# Altium footprint library GeneralComponents.PcbLib: 28 footprints (part 1 of 2)
Each footprint in its own frame and in the unit in brackets; x right, y up, seen from the top. Pads: shape width x height; smd on the part's side, far side on the other; paste and mask are expansions set on the pad; w line width, h text height; cw(c..) or ccw(c..) is an arc to the next point about the centre after c.
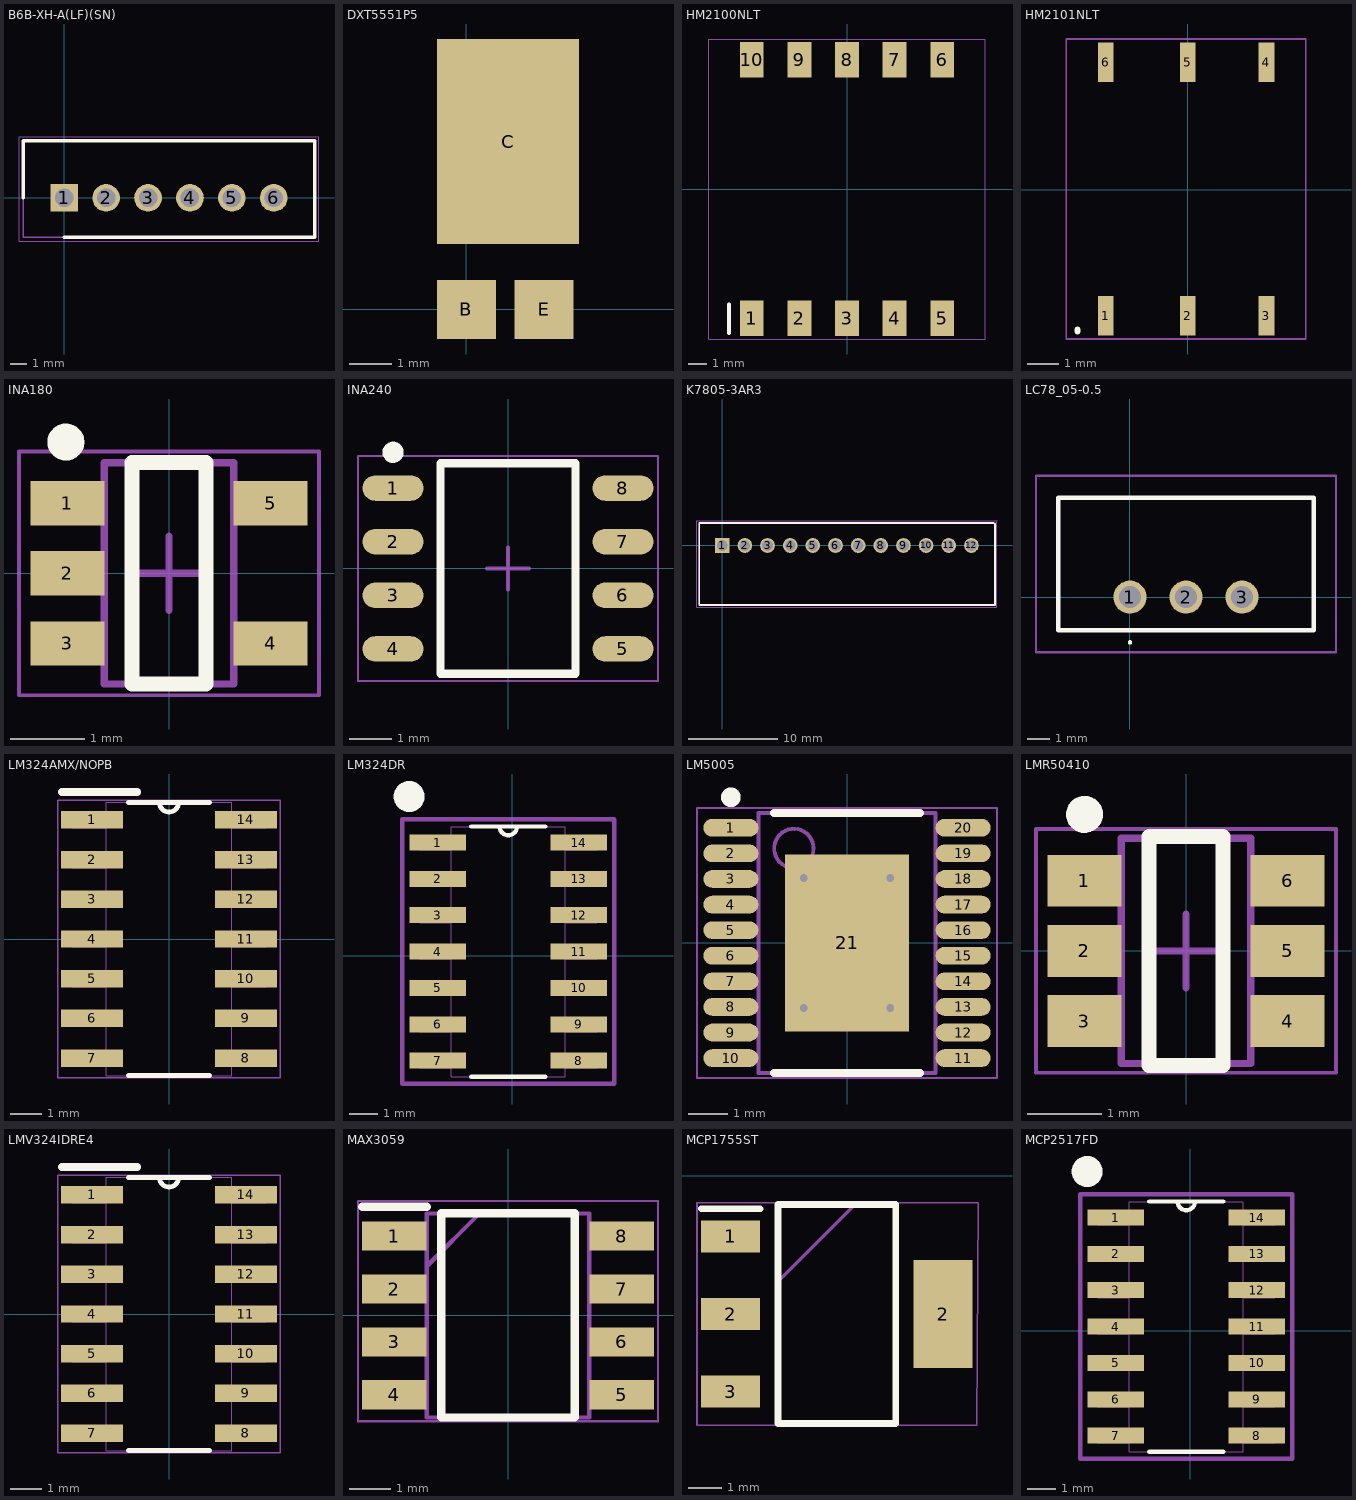
[diagram p0: the footprints below, top view; thin cyan lines are the x and y axes]

## B6B-XH-A(LF)(SN) [mm]
pads (6):
  rect 1.65x1.65 hole 1.1: 1(0,0)
  round 1.65 hole 1.1: 2(2.5,0) 3(5,0) 4(7.5,0) 5(10,0) 6(12.5,0)
Top Overlay:
  lines w0.2: -2.45,0 -2.45,3.4 14.95,3.4 14.95,-2.35 0,-2.35
Mechanical 13:
  lines w0.1: -2.45,-2.35 14.95,-2.35 14.95,3.4 -2.45,3.4 -2.45,-2.35
Mechanical 15:
  lines w0.05: -2.7,-2.6 15.2,-2.6 15.2,3.65 -2.7,3.65 -2.7,-2.6
3D body "B6B-XH-A_LF__SN_.stp": height 7, standoff -3.4, extent -2.45,-2.875 14.95,2.875

## DXT5551P5 [mm]
pads (3):
  rect 1.39x1.4 smd mask+0.07: B(0,0) E(1.84,0)
  rect 3.36x4.86 smd mask+0.07: C(0.985,3.982)
3D body "User Library-PowerDI-5.STEP": height 1.16, standoff 0.01, extent -1.009,-0.508 3.041,6.092

## HM2100NLT [mm]
height 3.45
pads (10):
  rect 1.27x1.89 smd: 1(-5.08,-6.895) 2(-2.54,-6.895) 3(0,-6.895) 4(2.54,-6.895) 5(5.08,-6.895) 6(5.08,6.895) 7(2.54,6.895) 8(0,6.895) 9(-2.54,6.895) 10(-5.08,6.895)
Top Overlay:
  lines w0.2: -6.288,-7.691 -6.288,-6.141
Mechanical 15:
  lines w0.05: -7.366,-8.001 -7.366,8.001 7.366,8.001 7.366,-8.001 -7.366,-8.001
3D body "HM2100NL.STEP": height 3.2, standoff -0.05, extent -7.35,-7.483 7.35,7.482

## HM2101NLT [mm]
pads (6):
  rect 0.51x1.27 smd: 1(-2.64,-4.05) 2(0,-4.05) 3(2.53,-4.045) 4(2.53,4.095) 5(0,4.095) 6(-2.64,4.095)
Top Overlay:
  lines w0.2: -3.55,-4.55 -3.55,-4.5
Mechanical 15:
  lines w0.05: -3.916,-4.8 3.8,-4.8 3.8,4.85 -3.916,4.85 -3.916,-4.8
3D body: height 0.25, standoff 0, extent -3.875,-4.35 3.775,4.45

## INA180 [mm] "SOT23, 5-Leads, Body 2.80x2.80mm, Pitch 0.95mm, IPC Medium Density"
height 1.1
pads (5):
  rect 1x0.6 smd: 1(-1.375,0.95) 2(-1.375,0) 3(-1.375,-0.95) 4(1.375,-0.95) 5(1.375,0.95)
Top Overlay:
  circle w0.25: c-1.397,1.778 r0.125
  lines w0.2: -0.5,-1.5 -0.5,1.5 0.5,1.5 0.5,-1.5 -0.5,-1.5
Mechanical 13:
  lines w0.1: -0.875,-1.5 0.875,-1.5 0.875,1.5 -0.875,1.5 -0.875,-1.5
Mechanical 15:
  lines w0.05: -2.032,-1.651 2.032,-1.651 2.032,1.651 -2.032,1.651 -2.032,-1.651
  lines w0.1: -0.5,0 0.5,0 ; 0,-0.5 0,0.5
3D body: height 1.1, standoff 0.05, extent -0.875,-1.5 0.875,1.5

## INA240 [mm] "SOIC, 8-Leads, Body 4.91x3.90mm, Pitch 1.27mm, IPC Medium Density"
height 1.75
pads (8):
  oval 1.45x0.6 smd: 1(-2.725,1.905) 2(-2.725,0.635) 3(-2.725,-0.635) 4(-2.725,-1.905) 5(2.725,-1.905) 6(2.725,-0.635) 7(2.725,0.635) 8(2.725,1.905)
Top Overlay:
  circle w0.25: c-2.725,2.755 r0.125
  lines w0.2: -1.6,-2.5 1.6,-2.5 1.6,2.5 -1.6,2.5 -1.6,-2.5
Mechanical 15:
  lines w0.05: -3.556,-2.667 3.556,-2.667 3.556,2.667 -3.556,2.667 -3.556,-2.667
  lines w0.1: -0.5,0 0.5,0 ; 0,-0.5 0,0.5
3D body "SOIC-8_3.9x4.9mm_P1.27mm.step": height 1.75, standoff 0, extent -3,-2.45 3,2.45

## K7805-3AR3 [mm] "Non-Isolated PoL Module DC DC Converter 1 Output 5V 3A 8V - 36V Input"
pads (12):
  rect 1.65x1.65 hole 1.2: 1(0,0)
  round 1.65 hole 1.2: 2(2.54,0) 3(5.08,0) 4(7.62,0) 5(10.16,0) 6(12.7,0) 7(15.24,0) 8(17.78,0) 9(20.32,0) 10(22.86,0) 11(25.4,0) 12(27.94,0)
Top Overlay:
  lines w0.2: -2.577,-6.604 -2.577,2.511 30.443,2.511 ; -2.54,-6.668 30.57,-6.668 30.57,2.446
Mechanical 13:
  lines w0.1: -2.577,2.382 -2.577,-6.668 30.443,-6.668 ; -2.577,2.511 30.607,2.54 30.607,-6.637
Mechanical 15:
  lines w0.05: -2.827,2.761 -2.827,-6.918 30.8,-6.918 30.8,2.761 ; -2.818,2.761 30.809,2.761

## LC78_05-0.5 [mm]
height 14.2
pads (3):
  round 1.5 hole 1: 1(0,0) 2(2.54,0) 3(5.08,0)
Top Overlay:
  lines w0.1: 0,-2.1 cw(c0,-2.05) 0,-2 cw(c0,-2.05) 0,-2.1
  lines w0.2: -3.26,-1.5 8.34,-1.5 8.34,4.5 -3.26,4.5 -3.26,-1.5
Mechanical 13:
  lines w0.1: -3.26,-1.5 8.34,-1.5 8.34,4.5 -3.26,4.5 -3.26,-1.5
Mechanical 15:
  lines w0.1: -4.26,-2.5 9.34,-2.5 9.34,5.5 -4.26,5.5 -4.26,-2.5
3D body "LC78_05-0.5.stp": height 10.3, standoff -5, extent -3.26,-1.5 8.34,4.5

## LM324AMX/NOPB [mil] "Gen Purp 4Ch Opamp"
pads (14):
  rect 78x22 smd: 1(-97,150) 2(-97,100) 3(-97,50) 4(-97,0) 5(-97,-50) 6(-97,-100) 7(-97,-150) 8(97,-150) 9(97,-100) 10(97,-50) 11(97,0) 12(97,50) 13(97,100) 14(97,150)
Top Overlay:
  lines w6: -50.89,-172 50.89,-172 ; -50.89,172 50.89,172 ; -12,172 ccw(c0,172) 12,172
  lines w10: -135,185 -40,185
Mechanical 13:
  lines w0: -12,172 ccw(c0,172) 12,172
  lines w1: -122,-160 -79,-160 -79,-140 -122,-140 -122,-160 ; -122,-110 -79,-110 -79,-90 -122,-90 -122,-110 ; -122,-60 -79,-60 -79,-40 -122,-40 -122,-60 ; -122,-10 -79,-10 -79,10 -122,10 -122,-10 ; -122,40 -79,40 -79,60 -122,60 -122,40 ; -122,90 -79,90 -79,110 -122,110 -122,90 ; -122,140 -79,140 -79,160 -122,160 -122,140 ; -79,-172 -79,172 79,172 79,-172 -79,-172 ; 79,-160 122,-160 122,-140 79,-140 79,-160 ; 79,-110 122,-110 122,-90 79,-90 79,-110 ; 79,-60 122,-60 122,-40 79,-40 79,-60 ; 79,-10 122,-10 122,10 79,10 79,-10 ; 79,40 122,40 122,60 79,60 79,40 ; 79,90 122,90 122,110 79,110 79,90 ; 79,140 122,140 122,160 79,160 79,140
Mechanical 15:
  lines w1.97: -140,-175 140,-175 140,175 -140,175 -140,-175
3D body: height 10, standoff 0, extent 0,0 10,10
3D body "M14A.step": height 69.09, standoff 0, extent -122,-172 122.01,172.01

## LM324DR [mil] "General Purpose Amplifier 4 Circuit 14-SOIC"
pads (14):
  rect 78x22 smd: 1(-102.35,155.67) 2(-102.35,105.67) 3(-102.35,55.67) 4(-102.35,5.67) 5(-102.35,-44.33) 6(-102.35,-94.33) 7(-102.35,-144.33) 8(91.65,-144.33) 9(91.65,-94.33) 10(91.65,-44.33) 11(91.65,5.67) 12(91.65,55.67) 13(91.65,105.67) 14(91.65,155.67)
Top Overlay:
  circle w21.81: c-141.73,218.9 r10.39
  lines w6: -56.24,-166.33 45.53,-166.33 ; -56.24,177.67 45.53,177.67 ; -17.35,177.67 ccw(c-5.35,177.67) 6.65,177.67
Mechanical 13:
  lines w0: -17.35,177.67 ccw(c-5.35,177.67) 6.65,177.67
  lines w1: -127.35,-154.33 -127.35,-134.33 -83.85,-134.33 -83.85,-154.33 -127.35,-154.33 ; -127.35,-104.33 -127.35,-84.33 -83.85,-84.33 -83.85,-104.33 -127.35,-104.33 ; -127.35,-54.33 -127.35,-34.33 -83.85,-34.33 -83.85,-54.33 -127.35,-54.33 ; -127.35,-4.33 -127.35,15.67 -83.85,15.67 -83.85,-4.33 -127.35,-4.33 ; -127.35,45.67 -127.35,65.67 -83.85,65.67 -83.85,45.67 -127.35,45.67 ; -127.35,95.67 -127.35,115.67 -83.85,115.67 -83.85,95.67 -127.35,95.67 ; -127.35,145.67 -127.35,165.67 -83.85,165.67 -83.85,145.67 -127.35,145.67 ; -83.85,-166.33 73.15,-166.33 73.15,177.67 -83.85,177.67 -83.85,-166.33 ; 73.15,-154.33 73.15,-134.33 116.65,-134.33 116.65,-154.33 73.15,-154.33 ; 73.15,-104.33 73.15,-84.33 116.65,-84.33 116.65,-104.33 73.15,-104.33 ; 73.15,-54.33 73.15,-34.33 116.65,-34.33 116.65,-54.33 73.15,-54.33 ; 73.15,-4.33 73.15,15.67 116.65,15.67 116.65,-4.33 73.15,-4.33 ; 73.15,45.67 73.15,65.67 116.65,65.67 116.65,45.67 73.15,45.67 ; 73.15,95.67 73.15,115.67 116.65,115.67 116.65,95.67 73.15,95.67 ; 73.15,145.67 73.15,165.67 116.65,165.67 116.65,145.67 73.15,145.67
Mechanical 15:
  lines w6: -151.35,-176.33 -151.35,187.67 140.65,187.67 140.65,-176.33 -151.35,-176.33
3D body "D14.step": height 69.09, standoff 0, extent -127.36,-166.34 116.65,177.68

## LM5005 [mm] "20-PowerTSSOP (0.173\"\", 4.40mm Width)"
height 1.1
pads (21):
  oval 1.4x0.45 smd: 1(-2.95,2.925) 2(-2.95,2.275) 3(-2.95,1.625) 4(-2.95,0.975) 5(-2.95,0.325) 6(-2.95,-0.325) 7(-2.95,-0.975) 8(-2.95,-1.625) 9(-2.95,-2.275) 10(-2.95,-2.925) 11(2.95,-2.925) 12(2.95,-2.275) 13(2.95,-1.625) 14(2.95,-0.975) 15(2.95,-0.325) 16(2.95,0.325) 17(2.95,0.975) 18(2.95,1.625) 19(2.95,2.275) 20(2.95,2.925)
  rect 3.15x4.5 smd: 21(0,0)
via -1.1,1.65 diameter 0.5 hole 0.2
via 1.1,-1.65 diameter 0.5 hole 0.2
via -1.1,-1.65 diameter 0.5 hole 0.2
via 1.1,1.65 diameter 0.5 hole 0.2
Top Overlay:
  circle w0.25: c-2.95,3.7 r0.125
  lines w0.2: -1.85,-3.3 1.85,-3.3 ; -1.85,3.3 1.85,3.3
Mechanical 13:
  circle w0.1: c-1.35,2.4 r0.5
  lines w0.1: -2.25,-3.3 2.25,-3.3 2.25,3.3 -2.25,3.3 -2.25,-3.3
Mechanical 15:
  lines w0.05: -3.81,-3.429 3.81,-3.429 3.81,3.429 -3.81,3.429 -3.81,-3.429
  lines w0.1: -0.5,0 0.5,0 ; 0,-0.5 0,0.5
3D body "LM5005.step": height 1.1, standoff 0, extent -3.2,-3.3 3.2,3.3

## LMR50410 [mm] "SOT23, 6-Leads, Body 2.90x2.80mm, Pitch 0.95mm, IPC Medium Density"
height 1.1
pads (6):
  rect 1x0.7 smd: 1(-1.375,0.95) 2(-1.375,0) 3(-1.375,-0.95) 4(1.375,-0.95) 5(1.375,0) 6(1.375,0.95)
Top Overlay:
  circle w0.25: c-1.375,1.85 r0.125
  lines w0.2: -0.5,-1.55 0.5,-1.55 0.5,1.55 -0.5,1.55 -0.5,-1.55
Mechanical 13:
  lines w0.1: -0.875,-1.525 -0.875,1.525 0.875,1.525 0.875,-1.525 -0.875,-1.525
Mechanical 15:
  lines w0.05: -2.032,-1.651 -2.032,1.651 2.032,1.651 2.032,-1.651 -2.032,-1.651
  lines w0.1: -0.5,0 0.5,0 ; 0,-0.5 0,0.5
3D body: height 1.1, standoff 0.05, extent -0.875,-1.525 0.875,1.525

## LMV324IDRE4 [mil] "Gen Purp 4Ch Opamp"
pads (14):
  rect 78x22 smd: 1(-97,150) 2(-97,100) 3(-97,50) 4(-97,0) 5(-97,-50) 6(-97,-100) 7(-97,-150) 8(97,-150) 9(97,-100) 10(97,-50) 11(97,0) 12(97,50) 13(97,100) 14(97,150)
Top Overlay:
  lines w6: -50.89,-172 50.89,-172 ; -50.89,172 50.89,172 ; -12,172 ccw(c0,172) 12,172
  lines w10: -135,185 -40,185
Mechanical 13:
  lines w0: -12,172 ccw(c0,172) 12,172
  lines w1: -122,-160 -122,-140 -79,-140 -79,-160 -122,-160 ; -122,-110 -122,-90 -79,-90 -79,-110 -122,-110 ; -122,-60 -122,-40 -79,-40 -79,-60 -122,-60 ; -122,-10 -122,10 -79,10 -79,-10 -122,-10 ; -122,40 -122,60 -79,60 -79,40 -122,40 ; -122,90 -122,110 -79,110 -79,90 -122,90 ; -122,140 -122,160 -79,160 -79,140 -122,140 ; -79,-172 79,-172 79,172 -79,172 -79,-172 ; 79,-160 79,-140 122,-140 122,-160 79,-160 ; 79,-110 79,-90 122,-90 122,-110 79,-110 ; 79,-60 79,-40 122,-40 122,-60 79,-60 ; 79,-10 79,10 122,10 122,-10 79,-10 ; 79,40 79,60 122,60 122,40 79,40 ; 79,90 79,110 122,110 122,90 79,90 ; 79,140 79,160 122,160 122,140 79,140
Mechanical 15:
  lines w1.97: -140,-175 -140,175 140,175 140,-175 -140,-175
3D body "M14A.step": height 69.09, standoff 0, extent -122,-172 122.01,172.01
3D body: height 10, standoff 0, extent 0,0 10,10

## MAX3059 [mm] "SOIC127P600X175-8N"
height 1.75
pads (8):
  rect 1.55x0.7 smd: 1(-2.725,1.905) 2(-2.725,0.635) 3(-2.725,-0.635) 4(-2.725,-1.905) 5(2.725,-1.905) 6(2.725,-0.635) 7(2.725,0.635) 8(2.725,1.905)
Top Overlay:
  lines w0.2: -3.5,2.605 -1.95,2.605 ; -1.6,-2.45 -1.6,2.45 1.6,2.45 1.6,-2.45 -1.6,-2.45
Mechanical 13:
  lines w0.1: -1.95,1.18 -0.68,2.45 ; -1.95,-2.45 -1.95,2.45 1.95,2.45 1.95,-2.45 -1.95,-2.45
Mechanical 15:
  lines w0.05: -3.6,-2.54 -3.6,2.75 3.6,2.75 3.6,-2.54 -3.6,-2.54
3D body "TJA1051T.stp": height 1.75, standoff 0, extent -3,-2.45 3,2.45

## MCP1755ST [mm] "Load Drop Voltage Regulator"
pads (4):
  rect 1.75x0.95 smd: 1(2.4,-1.8) 2(2.4,-4.1) 3(2.4,-6.4)
  rect 1.75x3.2 smd: 2(8.7,-4.1)
Top Overlay:
  lines w0.2: 1.525,-0.975 3.275,-0.975 ; 3.8,-7.35 3.8,-0.85 7.3,-0.85 7.3,-7.35 3.8,-7.35
Mechanical 13:
  lines w0.1: 3.8,-3.15 6.1,-0.85 ; 3.8,-7.35 3.8,-0.85 7.3,-0.85 7.3,-7.35 3.8,-7.35
Mechanical 15:
  lines w0.05: 1.4,-7.402 1.4,-0.798 9.741,-0.798 9.7,-7.402 1.4,-7.402
3D body "TLV1117-33CDCYR.stp": height 1.8, standoff 0, extent 2.05,-7.35 9.05,-0.85

## MCP2517FD [mil] "CANbus Controller CAN 2.0 SPI Interface 14-SOIC"
pads (14):
  rect 78x22 smd: 1(-102.35,155.67) 2(-102.35,105.67) 3(-102.35,55.67) 4(-102.35,5.67) 5(-102.35,-44.33) 6(-102.35,-94.33) 7(-102.35,-144.33) 8(91.65,-144.33) 9(91.65,-94.33) 10(91.65,-44.33) 11(91.65,5.67) 12(91.65,55.67) 13(91.65,105.67) 14(91.65,155.67)
Top Overlay:
  circle w21.81: c-141.73,218.9 r10.39
  lines w6: -56.24,-166.33 45.53,-166.33 ; -56.24,177.67 45.53,177.67 ; -17.35,177.67 ccw(c-5.35,177.67) 6.65,177.67
Mechanical 13:
  lines w0: -17.35,177.67 ccw(c-5.35,177.67) 6.65,177.67
  lines w1: -127.35,-154.33 -127.35,-134.33 -83.85,-134.33 -83.85,-154.33 -127.35,-154.33 ; -127.35,-104.33 -127.35,-84.33 -83.85,-84.33 -83.85,-104.33 -127.35,-104.33 ; -127.35,-54.33 -127.35,-34.33 -83.85,-34.33 -83.85,-54.33 -127.35,-54.33 ; -127.35,-4.33 -127.35,15.67 -83.85,15.67 -83.85,-4.33 -127.35,-4.33 ; -127.35,45.67 -127.35,65.67 -83.85,65.67 -83.85,45.67 -127.35,45.67 ; -127.35,95.67 -127.35,115.67 -83.85,115.67 -83.85,95.67 -127.35,95.67 ; -127.35,145.67 -127.35,165.67 -83.85,165.67 -83.85,145.67 -127.35,145.67 ; -83.85,-166.33 73.15,-166.33 73.15,177.67 -83.85,177.67 -83.85,-166.33 ; 73.15,-154.33 73.15,-134.33 116.65,-134.33 116.65,-154.33 73.15,-154.33 ; 73.15,-104.33 73.15,-84.33 116.65,-84.33 116.65,-104.33 73.15,-104.33 ; 73.15,-54.33 73.15,-34.33 116.65,-34.33 116.65,-54.33 73.15,-54.33 ; 73.15,-4.33 73.15,15.67 116.65,15.67 116.65,-4.33 73.15,-4.33 ; 73.15,45.67 73.15,65.67 116.65,65.67 116.65,45.67 73.15,45.67 ; 73.15,95.67 73.15,115.67 116.65,115.67 116.65,95.67 73.15,95.67 ; 73.15,145.67 73.15,165.67 116.65,165.67 116.65,145.67 73.15,145.67
Mechanical 15:
  lines w6: -151.35,-176.33 -151.35,187.67 140.65,187.67 140.65,-176.33 -151.35,-176.33
3D body "D14.step": height 69.09, standoff 0, extent -127.36,-166.34 116.65,177.68